# EAGLE library part ICM-20602 (library my_ic)
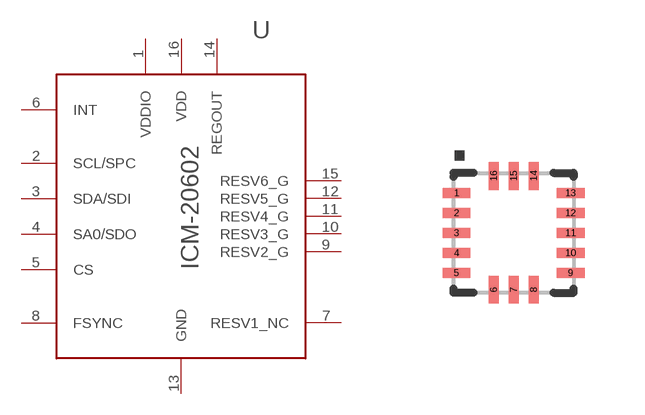
[diagram p36: symbol with the pads of LGA16-3X3; footprint LGA16-3X3]

Designator prefix -

## ICM-20602  [LGA16-3X3]
1  VDDIO
2  SCL/SPC
3  SDA/SDI
4  SA0/SDO
5  CS
6  INT
7  RESV1_NC
8  FSYNC
9  RESV2_G
10  RESV3_G
11  RESV4_G
12  RESV5_G
13  GND
14  REGOUT
15  RESV6_G
16  VDD

## Footprint LGA16-3X3 (pad centres in mm)
smd 0.7 x 0.25: 1 -1.425,1; 2 -1.425,0.5; 3 -1.425,0; 4 -1.425,-0.5; 5 -1.425,-1; 9 1.425,-1; 10 1.425,-0.5; 11 1.425,0; 12 1.425,0.5; 13 1.425,1
smd 0.25 x 0.7: 6 -0.5,-1.425; 7 0,-1.425; 8 0.5,-1.425; 14 0.5,1.425; 15 0,1.425; 16 -0.5,1.425